# Altium integrated library B2P-VH_LF__SN_.IntLib: 1 symbol
Pins are listed as number, name and electrical type; pins without a type are passive.

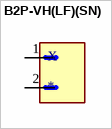
[diagram p0: symbol B2P-VH(LF)(SN)]

## B2P-VH(LF)(SN)
designator X
Connector Header Through Hole 2 position 0.156 _3.96mm_; MP: B2P-VH_LF__SN_; MF: JST Sales; Value: *; Package: None; Price: None; Availability: Unavailable; SnapEDA_Link: https://www.snapeda.com/parts/B2P-VH%28LF%29%28SN%29/JST%20Sales%20America%20Inc./view-part/104373/?ref=snap
footprint B2P-VH
pins: 1, 2